# Altium footprint library MMBT2222A-7-F.PcbLib: 1 footprints
Each footprint in its own frame and in the unit in brackets; x right, y up, seen from the top. Pads: shape width x height; smd on the part's side, far side on the other; paste and mask are expansions set on the pad; w line width, h text height; cw(c..) or ccw(c..) is an arc to the next point about the centre after c.
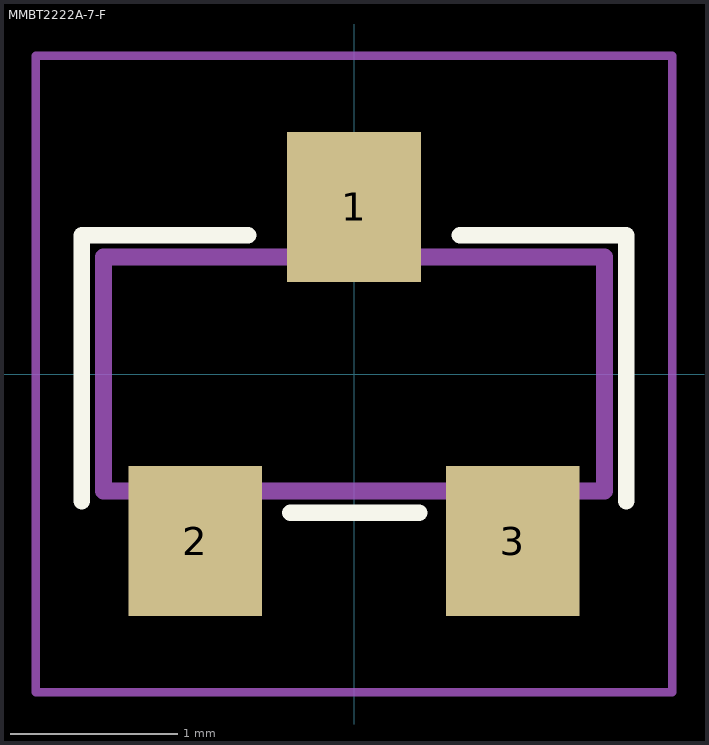
[diagram p0: the footprint, top view; thin cyan lines are the x and y axes]

## MMBT2222A-7-F [mm] "TRANS NPN 40V 0.6A SMD SOT23-3"
height 1.1
pads (3):
  rect 0.8x0.9 smd: 1(0,1) 2(-0.95,-1) 3(0.95,-1)
Top Overlay:
  lines w0.1: -1.63,-0.762 -1.63,0.83 -0.635,0.83 ; -0.38,-0.83 0.39,-0.83 ; 0.635,0.83 1.63,0.83 1.63,-0.762
Mechanical 1:
  lines w0.1: -1.5,-0.7 1.5,-0.7 1.5,0.7 -1.5,0.7 -1.5,-0.7
Mechanical 3:
  lines w0.05: -1.905,-1.905 -1.905,1.905 1.905,1.905 1.905,-1.905 -1.905,-1.905
3D body: height 1.1, standoff 0, extent -1.5,-0.7 1.5,0.7